# Altium footprint library IndustrialConnectors.PcbLib: 13 footprints
Each footprint in its own frame and in the unit in brackets; x right, y up, seen from the top. Pads: shape width x height; smd on the part's side, far side on the other; paste and mask are expansions set on the pad; w line width, h text height; cw(c..) or ccw(c..) is an arc to the next point about the centre after c.
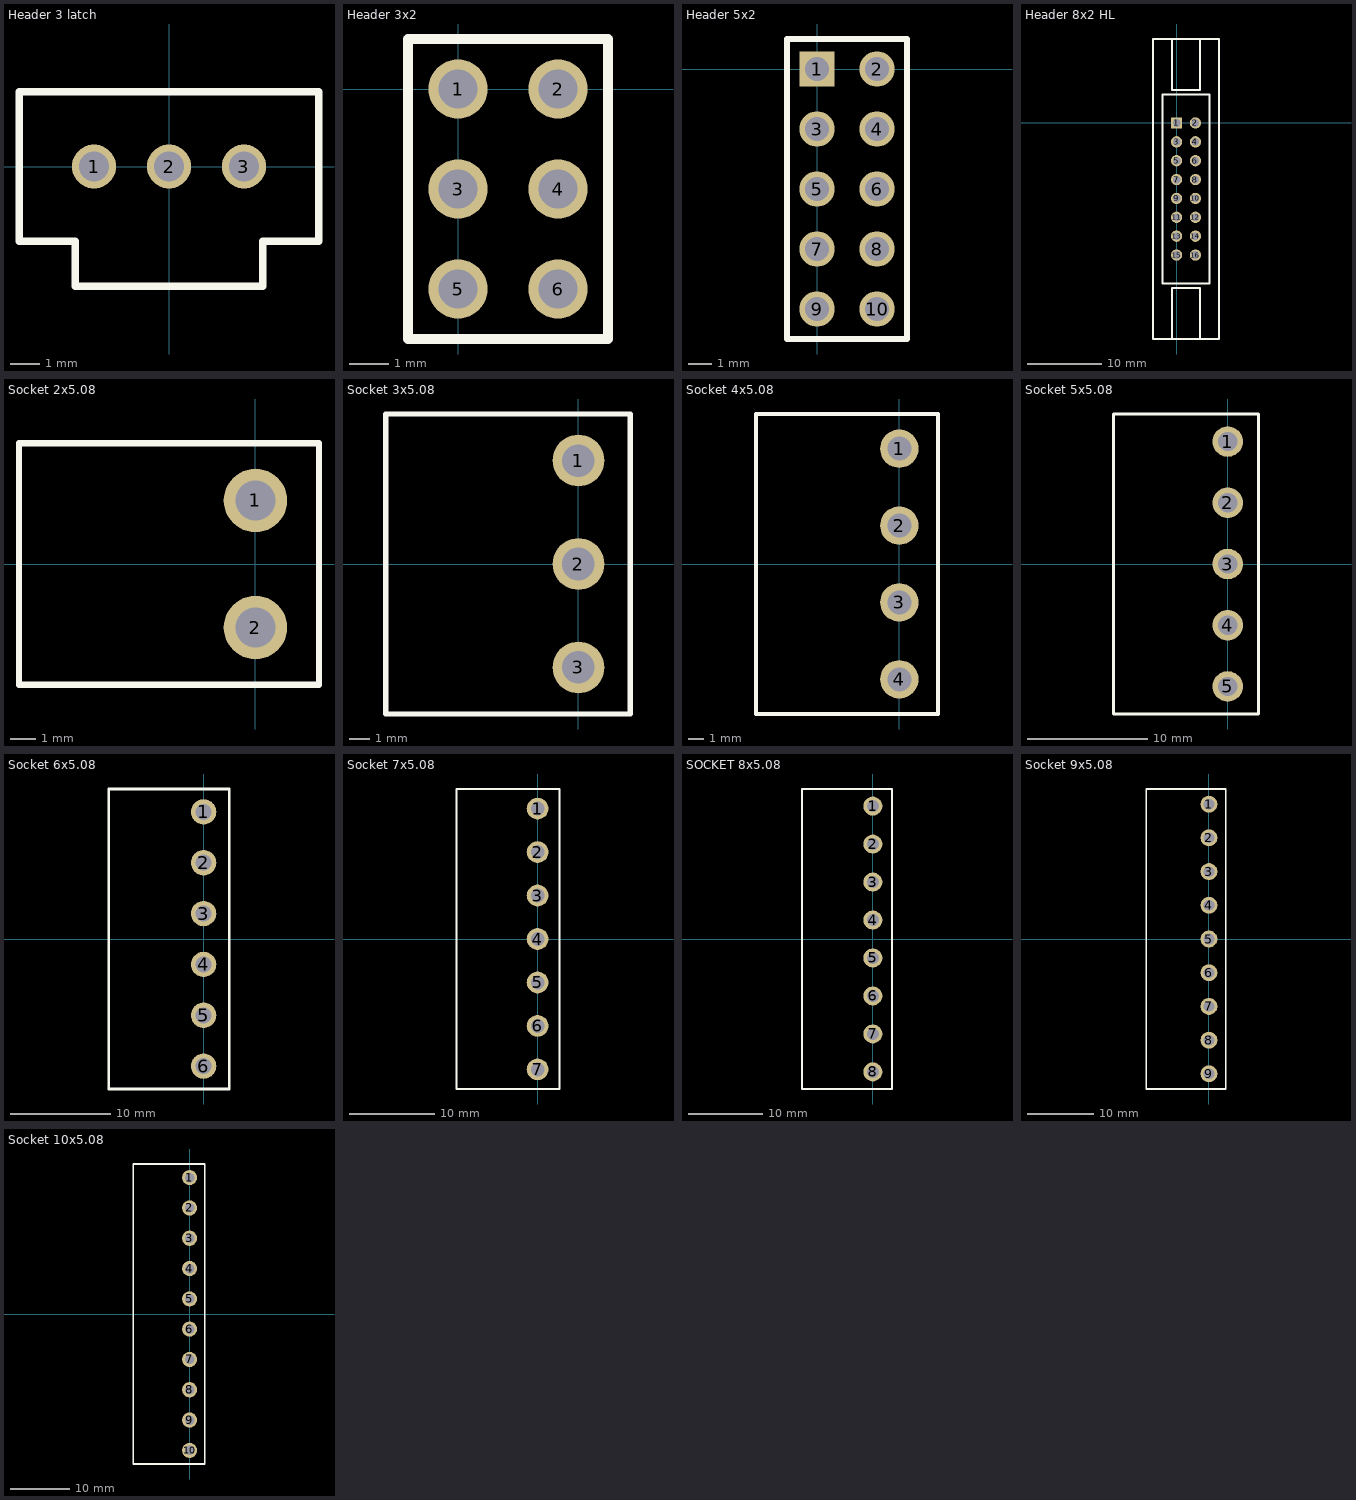
[diagram p0: the footprints below, top view; thin cyan lines are the x and y axes]

## Header 3 latch [mm]
pads (3):
  round 1.5 hole 1: 1(-2.54,0) 2(0,0) 3(2.54,0)
Top Overlay:
  lines w0.254: -5.08,-2.54 -3.175,-2.54 -3.175,-4.064 3.175,-4.064 3.175,-2.54 5.08,-2.54 5.08,2.54 -5.08,2.54 -5.08,-2.54
3D body: height 13.6, standoff -3.29, extent -5.08,-4.064 5.08,2.54

## Header 3x2 [mm]
pads (6):
  round 1.5 hole 1: 1(0,0) 2(2.54,0) 3(0,-2.54) 4(2.54,-2.54) 5(0,-5.08) 6(2.54,-5.08)
Top Overlay:
  lines w0.254: -1.27,-6.35 3.81,-6.35 3.81,1.27 -1.27,1.27 -1.27,-6.35
3D body: height 8.61, standoff -3.19, extent -1.23,-6.35 3.77,1.27

## Header 5x2 [mm]
pads (10):
  rect 1.5x1.5 hole 1: 1(0,0)
  round 1.5 hole 1: 2(2.54,0) 3(0,-2.54) 4(2.54,-2.54) 5(0,-5.08) 6(2.54,-5.08) 7(0,-7.62) 8(2.54,-7.62) 9(0,-10.16) 10(2.54,-10.16)
Top Overlay:
  lines w0.254: -1.27,-11.43 -1.27,1.27 3.81,1.27 3.81,-11.43 -1.27,-11.43
3D body: height 8.61, standoff -3.19, extent -1.23,-11.43 3.77,1.27

## Header 8x2 HL [mm]
pads (16):
  rect 1.52x1.52 hole 1.02: 1(0,0)
  round 1.52 hole 1.02: 2(2.54,0) 3(0,-2.54) 4(2.54,-2.54) 5(0,-5.08) 6(2.54,-5.08) 7(0,-7.62) 8(2.54,-7.62) 9(0,-10.16) 10(2.54,-10.16) 11(0,-12.7) 12(2.54,-12.7) 13(0,-15.24) 14(2.54,-15.24) 15(0,-17.78) 16(2.54,-17.78)
Top Overlay:
  lines w0.254: -0.635,-29.083 -0.635,-22.225 3.175,-22.225 3.175,-29.083 ; -0.635,11.303 -0.635,4.445 3.175,4.445 3.175,11.303 ; -3.175,-29.083 5.715,-29.083 5.715,11.303 -3.175,11.303 -3.175,-29.083 ; -1.905,-21.59 4.445,-21.59 4.445,3.81 -1.905,3.81 -1.905,-21.59
3D body: height 26.09, standoff -3.89, extent -2.794,-28.7 5.606,10.92

## Socket 2x5.08 [mm]
pads (2):
  round 2.54 hole 1.6: 1(0,2.54) 2(0,-2.54)
Top Overlay:
  lines w0.254: -9.46,-4.826 -9.46,4.826 2.54,4.826 2.54,-4.826 -9.46,-4.826
3D body: height 8.5, standoff -3.49, extent -9.968,-5.08 2.032,5.08

## Socket 3x5.08 [mm]
pads (3):
  round 2.54 hole 1.6: 1(0,5.08) 2(0,0) 3(0,-5.08)
Top Overlay:
  lines w0.254: -9.46,-7.366 -9.46,7.366 2.54,7.366 2.54,-7.366 -9.46,-7.366
3D body: height 8.5, standoff -3.49, extent -9.968,-7.62 2.032,7.62

## Socket 4x5.08 [mm]
pads (4):
  round 2.54 hole 1.6: 1(0,7.62) 2(0,2.54) 3(0,-2.54) 4(0,-7.62)
Top Overlay:
  lines w0.254: -9.46,-9.906 -9.46,9.906 2.54,9.906 2.54,-9.906 -9.46,-9.906
3D body: height 8.5, standoff -3.49, extent -9.968,-10.16 2.032,10.16

## Socket 5x5.08 [mm]
pads (5):
  round 2.54 hole 1.6: 1(0,10.16) 2(0,5.08) 3(0,0) 4(0,-5.08) 5(0,-10.16)
Top Overlay:
  lines w0.254: -9.46,-12.446 -9.46,12.446 2.54,12.446 2.54,-12.446 -9.46,-12.446
3D body: height 8.5, standoff -3.49, extent -9.968,-12.7 2.032,12.7

## Socket 6x5.08 [mm]
pads (6):
  round 2.54 hole 1.6: 1(0,12.7) 2(0,7.62) 3(0,2.54) 4(0,-2.54) 5(0,-7.62) 6(0,-12.7)
Top Overlay:
  lines w0.254: -9.46,-14.986 2.54,-14.986 2.54,14.986 -9.46,14.986 -9.46,-14.986
3D body: height 8.5, standoff -3.49, extent -9.968,-15.24 2.032,15.24

## Socket 7x5.08 [mm]
pads (7):
  round 2.54 hole 1.6: 1(0,15.24) 2(0,10.16) 3(0,5.08) 4(0,0) 5(0,-5.08) 6(0,-10.16) 7(0,-15.24)
Top Overlay:
  lines w0.254: -9.46,-17.526 -9.46,17.526 2.54,17.526 2.54,-17.526 -9.46,-17.526
3D body: height 8.5, standoff -3.49, extent -9.968,-17.78 2.032,17.78

## SOCKET 8x5.08 [mm]
pads (8):
  round 2.54 hole 1.6: 1(0,17.78) 2(0,12.7) 3(0,7.62) 4(0,2.54) 5(0,-2.54) 6(0,-7.62) 7(0,-12.7) 8(0,-17.78)
Top Overlay:
  lines w0.254: -9.46,-20.066 2.54,-20.066 2.54,20.066 -9.46,20.066 -9.46,-20.066
3D body: height 8.5, standoff -3.49, extent -9.968,-20.32 2.032,20.32

## Socket 9x5.08 [mm]
pads (9):
  round 2.54 hole 1.6: 1(0,20.32) 2(0,15.24) 3(0,10.16) 4(0,5.08) 5(0,0) 6(0,-5.08) 7(0,-10.16) 8(0,-15.24) 9(0,-20.32)
Top Overlay:
  lines w0.254: -9.46,-22.606 -9.46,22.606 2.54,22.606 2.54,-22.606 -9.46,-22.606
3D body: height 8.5, standoff -3.49, extent -9.968,-22.86 2.032,22.86

## Socket 10x5.08 [mm]
pads (10):
  round 2.54 hole 1.6: 1(0,22.86) 2(0,17.78) 3(0,12.7) 4(0,7.62) 5(0,2.54) 6(0,-2.54) 7(0,-7.62) 8(0,-12.7) 9(0,-17.78) 10(0,-22.86)
Top Overlay:
  lines w0.254: -9.46,-25.146 2.54,-25.146 2.54,25.146 -9.46,25.146 -9.46,-25.146
3D body: height 8.5, standoff -3.49, extent -9.968,-25.4 2.032,25.4